# Altium integrated library Wurth_Elektronik_Passive_rev16a.IntLib: 1143 symbols (part 4 of 28)
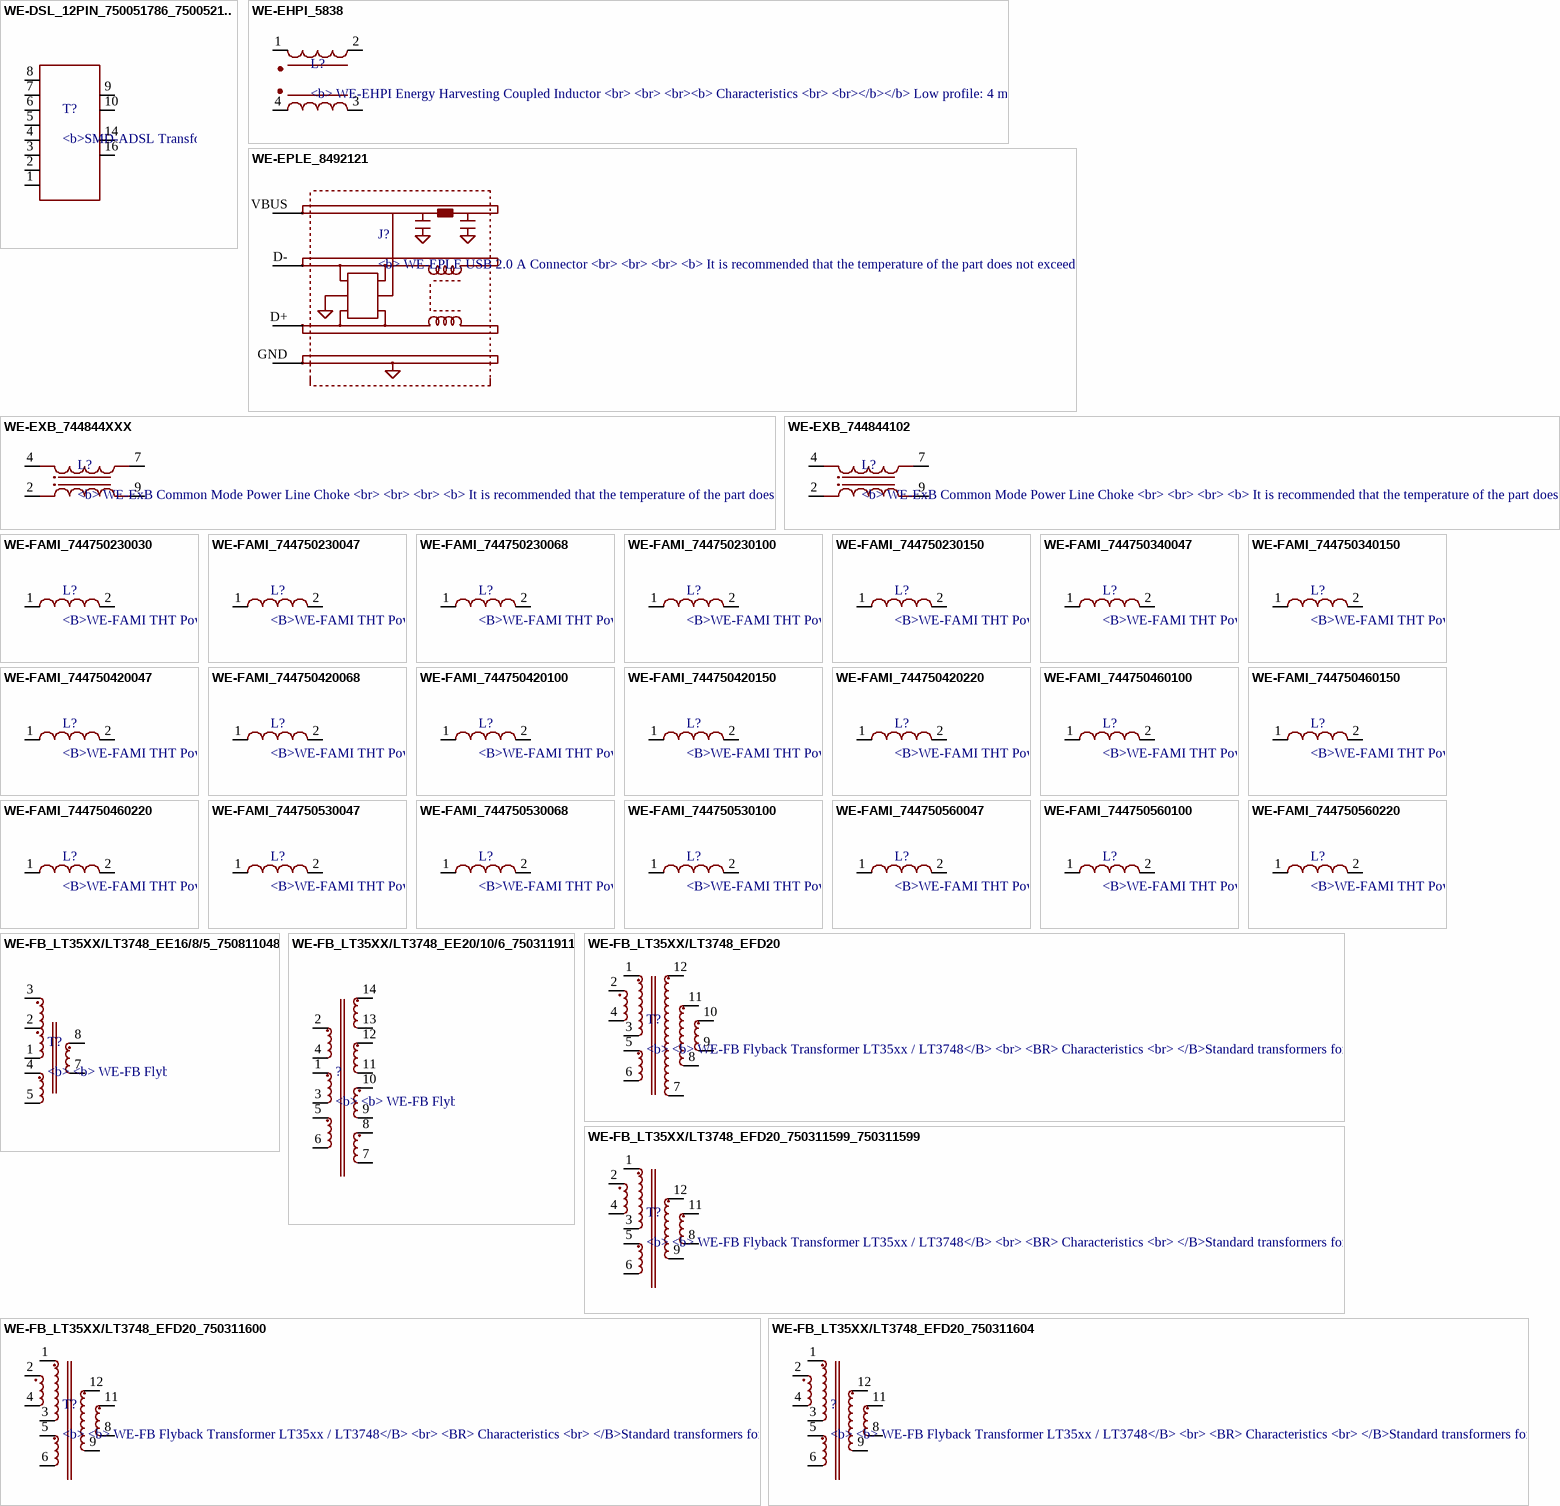
[diagram p61: symbols WE-DSL_12PIN_750051786_7500521.. to WE-FB_LT35XX/LT3748_EFD20_750311604]

## WE-FAMI_744750230047
designator L?, comment <B>WE-FAMI THT Power Inductor</B><BR> / <BR> / <B>Characteristics<br></b><br> / Optimization of material composition causes high performance <br> / Up to 19.7 A Saturation Current <br> / RDC values starting at 3.8 mΩ<br> / Shielded design <br> / Low stray field <br> / <br> / <b>Application</b><br> / <br> / DC/DC converters<br> / Power supplies and battery chargers<br> / Home Entertainment Systems <br> / Portable devices like notebooks<br> / <br> / <br><a href="http://katalog.we-online.de/media/images/eisos/IndFAMI_pf2.jpg" title="Enlarge picture"> / <img src="http://katalog.we-online.de/media/images/eisos/IndFAMI_pf2.jpg" width="320"></a><p> / Details see: <a href="http://katalog.we-online.de/en/pbs/WE-FAMI">http://katalog.we-online.de/en/pbs/WE-FAMI</a><p> / Updated on 2015-05-21<br> / 2015(C) Wurth Elektronik
footprint WE-FAMI_8010_744750230047
pins: 1, 2

## WE-FAMI_744750230068
designator L?, comment <B>WE-FAMI THT Power Inductor</B><BR> / <BR> / <B>Characteristics<br></b><br> / Optimization of material composition causes high performance <br> / Up to 19.7 A Saturation Current <br> / RDC values starting at 3.8 mΩ<br> / Shielded design <br> / Low stray field <br> / <br> / <b>Application</b><br> / <br> / DC/DC converters<br> / Power supplies and battery chargers<br> / Home Entertainment Systems <br> / Portable devices like notebooks<br> / <br> / <br><a href="http://katalog.we-online.de/media/images/eisos/IndFAMI_pf2.jpg" title="Enlarge picture"> / <img src="http://katalog.we-online.de/media/images/eisos/IndFAMI_pf2.jpg" width="320"></a><p> / Details see: <a href="http://katalog.we-online.de/en/pbs/WE-FAMI">http://katalog.we-online.de/en/pbs/WE-FAMI</a><p> / Updated on 2015-05-21<br> / 2015(C) Wurth Elektronik
footprint WE-FAMI_8010_744750230068
pins: 1, 2

## WE-FAMI_744750230100
designator L?, comment <B>WE-FAMI THT Power Inductor</B><BR> / <BR> / <B>Characteristics<br></b><br> / Optimization of material composition causes high performance <br> / Up to 19.7 A Saturation Current <br> / RDC values starting at 3.8 mΩ<br> / Shielded design <br> / Low stray field <br> / <br> / <b>Application</b><br> / <br> / DC/DC converters<br> / Power supplies and battery chargers<br> / Home Entertainment Systems <br> / Portable devices like notebooks<br> / <br> / <br><a href="http://katalog.we-online.de/media/images/eisos/IndFAMI_pf2.jpg" title="Enlarge picture"> / <img src="http://katalog.we-online.de/media/images/eisos/IndFAMI_pf2.jpg" width="320"></a><p> / Details see: <a href="http://katalog.we-online.de/en/pbs/WE-FAMI">http://katalog.we-online.de/en/pbs/WE-FAMI</a><p> / Updated on 2015-05-21<br> / 2015(C) Wurth Elektronik
footprint WE-FAMI_8010_744750230100
pins: 1, 2

## WE-FAMI_744750230150
designator L?, comment <B>WE-FAMI THT Power Inductor</B><BR> / <BR> / <B>Characteristics<br></b><br> / Optimization of material composition causes high performance <br> / Up to 19.7 A Saturation Current <br> / RDC values starting at 3.8 mΩ<br> / Shielded design <br> / Low stray field <br> / <br> / <b>Application</b><br> / <br> / DC/DC converters<br> / Power supplies and battery chargers<br> / Home Entertainment Systems <br> / Portable devices like notebooks<br> / <br> / <br><a href="http://katalog.we-online.de/media/images/eisos/IndFAMI_pf2.jpg" title="Enlarge picture"> / <img src="http://katalog.we-online.de/media/images/eisos/IndFAMI_pf2.jpg" width="320"></a><p> / Details see: <a href="http://katalog.we-online.de/en/pbs/WE-FAMI">http://katalog.we-online.de/en/pbs/WE-FAMI</a><p> / Updated on 2015-05-21<br> / 2015(C) Wurth Elektronik
footprint WE-FAMI_8010_744750230150
pins: 1, 2

## WE-FAMI_744750340047
designator L?, comment <B>WE-FAMI THT Power Inductor</B><BR> / <BR> / <B>Characteristics<br></b><br> / Optimization of material composition causes high performance <br> / Up to 19.7 A Saturation Current <br> / RDC values starting at 3.8 mΩ<br> / Shielded design <br> / Low stray field <br> / <br> / <b>Application</b><br> / <br> / DC/DC converters<br> / Power supplies and battery chargers<br> / Home Entertainment Systems <br> / Portable devices like notebooks<br> / <br> / <br><a href="http://katalog.we-online.de/media/images/eisos/IndFAMI_pf2.jpg" title="Enlarge picture"> / <img src="http://katalog.we-online.de/media/images/eisos/IndFAMI_pf2.jpg" width="320"></a><p> / Details see: <a href="http://katalog.we-online.de/en/pbs/WE-FAMI">http://katalog.we-online.de/en/pbs/WE-FAMI</a><p> / Updated on 2015-05-21<br> / 2015(C) Wurth Elektronik
footprint WE-FAMI_1012_744750340047
pins: 1, 2

## WE-FAMI_744750340150
designator L?, comment <B>WE-FAMI THT Power Inductor</B><BR> / <BR> / <B>Characteristics<br></b><br> / Optimization of material composition causes high performance <br> / Up to 19.7 A Saturation Current <br> / RDC values starting at 3.8 mΩ<br> / Shielded design <br> / Low stray field <br> / <br> / <b>Application</b><br> / <br> / DC/DC converters<br> / Power supplies and battery chargers<br> / Home Entertainment Systems <br> / Portable devices like notebooks<br> / <br> / <br><a href="http://katalog.we-online.de/media/images/eisos/IndFAMI_pf2.jpg" title="Enlarge picture"> / <img src="http://katalog.we-online.de/media/images/eisos/IndFAMI_pf2.jpg" width="320"></a><p> / Details see: <a href="http://katalog.we-online.de/en/pbs/WE-FAMI">http://katalog.we-online.de/en/pbs/WE-FAMI</a><p> / Updated on 2015-05-21<br> / 2015(C) Wurth Elektronik
footprint WE-FAMI_1012_744750340150
pins: 1, 2

## WE-FAMI_744750420047
designator L?, comment <B>WE-FAMI THT Power Inductor</B><BR> / <BR> / <B>Characteristics<br></b><br> / Optimization of material composition causes high performance <br> / Up to 19.7 A Saturation Current <br> / RDC values starting at 3.8 mΩ<br> / Shielded design <br> / Low stray field <br> / <br> / <b>Application</b><br> / <br> / DC/DC converters<br> / Power supplies and battery chargers<br> / Home Entertainment Systems <br> / Portable devices like notebooks<br> / <br> / <br><a href="http://katalog.we-online.de/media/images/eisos/IndFAMI_pf2.jpg" title="Enlarge picture"> / <img src="http://katalog.we-online.de/media/images/eisos/IndFAMI_pf2.jpg" width="320"></a><p> / Details see: <a href="http://katalog.we-online.de/en/pbs/WE-FAMI">http://katalog.we-online.de/en/pbs/WE-FAMI</a><p> / Updated on 2015-05-21<br> / 2015(C) Wurth Elektronik
footprint WE-FAMI_1280_744750420047
pins: 1, 2

## WE-FAMI_744750420068
designator L?, comment <B>WE-FAMI THT Power Inductor</B><BR> / <BR> / <B>Characteristics<br></b><br> / Optimization of material composition causes high performance <br> / Up to 19.7 A Saturation Current <br> / RDC values starting at 3.8 mΩ<br> / Shielded design <br> / Low stray field <br> / <br> / <b>Application</b><br> / <br> / DC/DC converters<br> / Power supplies and battery chargers<br> / Home Entertainment Systems <br> / Portable devices like notebooks<br> / <br> / <br><a href="http://katalog.we-online.de/media/images/eisos/IndFAMI_pf2.jpg" title="Enlarge picture"> / <img src="http://katalog.we-online.de/media/images/eisos/IndFAMI_pf2.jpg" width="320"></a><p> / Details see: <a href="http://katalog.we-online.de/en/pbs/WE-FAMI">http://katalog.we-online.de/en/pbs/WE-FAMI</a><p> / Updated on 2015-05-21<br> / 2015(C) Wurth Elektronik
footprint WE-FAMI_1280_744750420068
pins: 1, 2

## WE-FAMI_744750420100
designator L?, comment <B>WE-FAMI THT Power Inductor</B><BR> / <BR> / <B>Characteristics<br></b><br> / Optimization of material composition causes high performance <br> / Up to 19.7 A Saturation Current <br> / RDC values starting at 3.8 mΩ<br> / Shielded design <br> / Low stray field <br> / <br> / <b>Application</b><br> / <br> / DC/DC converters<br> / Power supplies and battery chargers<br> / Home Entertainment Systems <br> / Portable devices like notebooks<br> / <br> / <br><a href="http://katalog.we-online.de/media/images/eisos/IndFAMI_pf2.jpg" title="Enlarge picture"> / <img src="http://katalog.we-online.de/media/images/eisos/IndFAMI_pf2.jpg" width="320"></a><p> / Details see: <a href="http://katalog.we-online.de/en/pbs/WE-FAMI">http://katalog.we-online.de/en/pbs/WE-FAMI</a><p> / Updated on 2015-05-21<br> / 2015(C) Wurth Elektronik
footprint WE-FAMI_1280_744750420100
pins: 1, 2

## WE-FAMI_744750420150
designator L?, comment <B>WE-FAMI THT Power Inductor</B><BR> / <BR> / <B>Characteristics<br></b><br> / Optimization of material composition causes high performance <br> / Up to 19.7 A Saturation Current <br> / RDC values starting at 3.8 mΩ<br> / Shielded design <br> / Low stray field <br> / <br> / <b>Application</b><br> / <br> / DC/DC converters<br> / Power supplies and battery chargers<br> / Home Entertainment Systems <br> / Portable devices like notebooks<br> / <br> / <br><a href="http://katalog.we-online.de/media/images/eisos/IndFAMI_pf2.jpg" title="Enlarge picture"> / <img src="http://katalog.we-online.de/media/images/eisos/IndFAMI_pf2.jpg" width="320"></a><p> / Details see: <a href="http://katalog.we-online.de/en/pbs/WE-FAMI">http://katalog.we-online.de/en/pbs/WE-FAMI</a><p> / Updated on 2015-05-21<br> / 2015(C) Wurth Elektronik
footprint WE-FAMI_1280_744750420150
pins: 1, 2

## WE-FAMI_744750420220
designator L?, comment <B>WE-FAMI THT Power Inductor</B><BR> / <BR> / <B>Characteristics<br></b><br> / Optimization of material composition causes high performance <br> / Up to 19.7 A Saturation Current <br> / RDC values starting at 3.8 mΩ<br> / Shielded design <br> / Low stray field <br> / <br> / <b>Application</b><br> / <br> / DC/DC converters<br> / Power supplies and battery chargers<br> / Home Entertainment Systems <br> / Portable devices like notebooks<br> / <br> / <br><a href="http://katalog.we-online.de/media/images/eisos/IndFAMI_pf2.jpg" title="Enlarge picture"> / <img src="http://katalog.we-online.de/media/images/eisos/IndFAMI_pf2.jpg" width="320"></a><p> / Details see: <a href="http://katalog.we-online.de/en/pbs/WE-FAMI">http://katalog.we-online.de/en/pbs/WE-FAMI</a><p> / Updated on 2015-05-21<br> / 2015(C) Wurth Elektronik
footprint WE-FAMI_1280_744750420220
pins: 1, 2

## WE-FAMI_744750460100
designator L?, comment <B>WE-FAMI THT Power Inductor</B><BR> / <BR> / <B>Characteristics<br></b><br> / Optimization of material composition causes high performance <br> / Up to 19.7 A Saturation Current <br> / RDC values starting at 3.8 mΩ<br> / Shielded design <br> / Low stray field <br> / <br> / <b>Application</b><br> / <br> / DC/DC converters<br> / Power supplies and battery chargers<br> / Home Entertainment Systems <br> / Portable devices like notebooks<br> / <br> / <br><a href="http://katalog.we-online.de/media/images/eisos/IndFAMI_pf2.jpg" title="Enlarge picture"> / <img src="http://katalog.we-online.de/media/images/eisos/IndFAMI_pf2.jpg" width="320"></a><p> / Details see: <a href="http://katalog.we-online.de/en/pbs/WE-FAMI">http://katalog.we-online.de/en/pbs/WE-FAMI</a><p> / Updated on 2015-05-21<br> / 2015(C) Wurth Elektronik
footprint WE-FAMI_1215_744750460100
pins: 1, 2

## WE-FAMI_744750460150
designator L?, comment <B>WE-FAMI THT Power Inductor</B><BR> / <BR> / <B>Characteristics<br></b><br> / Optimization of material composition causes high performance <br> / Up to 19.7 A Saturation Current <br> / RDC values starting at 3.8 mΩ<br> / Shielded design <br> / Low stray field <br> / <br> / <b>Application</b><br> / <br> / DC/DC converters<br> / Power supplies and battery chargers<br> / Home Entertainment Systems <br> / Portable devices like notebooks<br> / <br> / <br><a href="http://katalog.we-online.de/media/images/eisos/IndFAMI_pf2.jpg" title="Enlarge picture"> / <img src="http://katalog.we-online.de/media/images/eisos/IndFAMI_pf2.jpg" width="320"></a><p> / Details see: <a href="http://katalog.we-online.de/en/pbs/WE-FAMI">http://katalog.we-online.de/en/pbs/WE-FAMI</a><p> / Updated on 2015-05-21<br> / 2015(C) Wurth Elektronik
footprint WE-FAMI_1215_744750460150
pins: 1, 2

## WE-FAMI_744750460220
designator L?, comment <B>WE-FAMI THT Power Inductor</B><BR> / <BR> / <B>Characteristics<br></b><br> / Optimization of material composition causes high performance <br> / Up to 19.7 A Saturation Current <br> / RDC values starting at 3.8 mΩ<br> / Shielded design <br> / Low stray field <br> / <br> / <b>Application</b><br> / <br> / DC/DC converters<br> / Power supplies and battery chargers<br> / Home Entertainment Systems <br> / Portable devices like notebooks<br> / <br> / <br><a href="http://katalog.we-online.de/media/images/eisos/IndFAMI_pf2.jpg" title="Enlarge picture"> / <img src="http://katalog.we-online.de/media/images/eisos/IndFAMI_pf2.jpg" width="320"></a><p> / Details see: <a href="http://katalog.we-online.de/en/pbs/WE-FAMI">http://katalog.we-online.de/en/pbs/WE-FAMI</a><p> / Updated on 2015-05-21<br> / 2015(C) Wurth Elektronik
footprint WE-FAMI_1215_744750460220
pins: 1, 2

## WE-FAMI_744750530047
designator L?, comment <B>WE-FAMI THT Power Inductor</B><BR> / <BR> / <B>Characteristics<br></b><br> / Optimization of material composition causes high performance <br> / Up to 19.7 A Saturation Current <br> / RDC values starting at 3.8 mΩ<br> / Shielded design <br> / Low stray field <br> / <br> / <b>Application</b><br> / <br> / DC/DC converters<br> / Power supplies and battery chargers<br> / Home Entertainment Systems <br> / Portable devices like notebooks<br> / <br> / <br><a href="http://katalog.we-online.de/media/images/eisos/IndFAMI_pf2.jpg" title="Enlarge picture"> / <img src="http://katalog.we-online.de/media/images/eisos/IndFAMI_pf2.jpg" width="320"></a><p> / Details see: <a href="http://katalog.we-online.de/en/pbs/WE-FAMI">http://katalog.we-online.de/en/pbs/WE-FAMI</a><p> / Updated on 2015-05-21<br> / 2015(C) Wurth Elektronik
footprint WE-FAMI_1410_744750530047
pins: 1, 2

## WE-FAMI_744750530068
designator L?, comment <B>WE-FAMI THT Power Inductor</B><BR> / <BR> / <B>Characteristics<br></b><br> / Optimization of material composition causes high performance <br> / Up to 19.7 A Saturation Current <br> / RDC values starting at 3.8 mΩ<br> / Shielded design <br> / Low stray field <br> / <br> / <b>Application</b><br> / <br> / DC/DC converters<br> / Power supplies and battery chargers<br> / Home Entertainment Systems <br> / Portable devices like notebooks<br> / <br> / <br><a href="http://katalog.we-online.de/media/images/eisos/IndFAMI_pf2.jpg" title="Enlarge picture"> / <img src="http://katalog.we-online.de/media/images/eisos/IndFAMI_pf2.jpg" width="320"></a><p> / Details see: <a href="http://katalog.we-online.de/en/pbs/WE-FAMI">http://katalog.we-online.de/en/pbs/WE-FAMI</a><p> / Updated on 2015-05-21<br> / 2015(C) Wurth Elektronik
footprint WE-FAMI_1410_744750530068
pins: 1, 2

## WE-FAMI_744750530100
designator L?, comment <B>WE-FAMI THT Power Inductor</B><BR> / <BR> / <B>Characteristics<br></b><br> / Optimization of material composition causes high performance <br> / Up to 19.7 A Saturation Current <br> / RDC values starting at 3.8 mΩ<br> / Shielded design <br> / Low stray field <br> / <br> / <b>Application</b><br> / <br> / DC/DC converters<br> / Power supplies and battery chargers<br> / Home Entertainment Systems <br> / Portable devices like notebooks<br> / <br> / <br><a href="http://katalog.we-online.de/media/images/eisos/IndFAMI_pf2.jpg" title="Enlarge picture"> / <img src="http://katalog.we-online.de/media/images/eisos/IndFAMI_pf2.jpg" width="320"></a><p> / Details see: <a href="http://katalog.we-online.de/en/pbs/WE-FAMI">http://katalog.we-online.de/en/pbs/WE-FAMI</a><p> / Updated on 2015-05-21<br> / 2015(C) Wurth Elektronik
footprint WE-FAMI_1410_744750530100
pins: 1, 2

## WE-FAMI_744750560047
designator L?, comment <B>WE-FAMI THT Power Inductor</B><BR> / <BR> / <B>Characteristics<br></b><br> / Optimization of material composition causes high performance <br> / Up to 19.7 A Saturation Current <br> / RDC values starting at 3.8 mΩ<br> / Shielded design <br> / Low stray field <br> / <br> / <b>Application</b><br> / <br> / DC/DC converters<br> / Power supplies and battery chargers<br> / Home Entertainment Systems <br> / Portable devices like notebooks<br> / <br> / <br><a href="http://katalog.we-online.de/media/images/eisos/IndFAMI_pf2.jpg" title="Enlarge picture"> / <img src="http://katalog.we-online.de/media/images/eisos/IndFAMI_pf2.jpg" width="320"></a><p> / Details see: <a href="http://katalog.we-online.de/en/pbs/WE-FAMI">http://katalog.we-online.de/en/pbs/WE-FAMI</a><p> / Updated on 2015-05-21<br> / 2015(C) Wurth Elektronik
footprint WE-FAMI_1415_744750560047
pins: 1, 2

## WE-FAMI_744750560100
designator L?, comment <B>WE-FAMI THT Power Inductor</B><BR> / <BR> / <B>Characteristics<br></b><br> / Optimization of material composition causes high performance <br> / Up to 19.7 A Saturation Current <br> / RDC values starting at 3.8 mΩ<br> / Shielded design <br> / Low stray field <br> / <br> / <b>Application</b><br> / <br> / DC/DC converters<br> / Power supplies and battery chargers<br> / Home Entertainment Systems <br> / Portable devices like notebooks<br> / <br> / <br><a href="http://katalog.we-online.de/media/images/eisos/IndFAMI_pf2.jpg" title="Enlarge picture"> / <img src="http://katalog.we-online.de/media/images/eisos/IndFAMI_pf2.jpg" width="320"></a><p> / Details see: <a href="http://katalog.we-online.de/en/pbs/WE-FAMI">http://katalog.we-online.de/en/pbs/WE-FAMI</a><p> / Updated on 2015-05-21<br> / 2015(C) Wurth Elektronik
footprint WE-FAMI_1415_744750560100
pins: 1, 2

## WE-FAMI_744750560220
designator L?, comment <B>WE-FAMI THT Power Inductor</B><BR> / <BR> / <B>Characteristics<br></b><br> / Optimization of material composition causes high performance <br> / Up to 19.7 A Saturation Current <br> / RDC values starting at 3.8 mΩ<br> / Shielded design <br> / Low stray field <br> / <br> / <b>Application</b><br> / <br> / DC/DC converters<br> / Power supplies and battery chargers<br> / Home Entertainment Systems <br> / Portable devices like notebooks<br> / <br> / <br><a href="http://katalog.we-online.de/media/images/eisos/IndFAMI_pf2.jpg" title="Enlarge picture"> / <img src="http://katalog.we-online.de/media/images/eisos/IndFAMI_pf2.jpg" width="320"></a><p> / Details see: <a href="http://katalog.we-online.de/en/pbs/WE-FAMI">http://katalog.we-online.de/en/pbs/WE-FAMI</a><p> / Updated on 2015-05-21<br> / 2015(C) Wurth Elektronik
footprint WE-FAMI_1415_744750560220
pins: 1, 2

## WE-FB_LT35XX/LT3748_EE16/8/5_750811048
designator T?, comment <b> <b> WE-FB Flyback Transformer LT35xx / LT3748</B> / <br> / <BR> / Characteristics / <br> </B>Standard transformers for various output voltages currents available<BR></B> / Easy design of custom power supply due to standard circuit and change of transformers and two components for feedback loop<BR> / Isolation voltage up to 2.5 kV / <br> / <br> / <br><b> Applications <BR> / </B> Isolated power design<BR> / Sensor interfaces<BR> / Isolated telecom converters<BR> / Power over Ethernet<BR> / <br> / <br> / <br> / <br><a href="http://katalog.we-online.de/media/images/eisos/UtFB_LT_MID_pf2.jpg" title="Enlarge picture"> / <img src="http://katalog.we-online.de/media/thumbs2/eisos/thb_UtFB_LT_MID_pf2.jpg" width="320"></a><p> / Details see: <a href="http://katalog.we-online.de/en/pbs/WE-FB_Linear?">http://katalog.we-online.de/en/pbs/WE-FB_Linear?</a><p> / Updated 2015-04-03<br> / 2015 (C) Wurth Elektronik / <br>
footprint WE-FB_EE16/8/5
pins: 1 6, 2 7, 3 1, 4 5, 5 4, 7 3, 8 2

## WE-FB_LT35XX/LT3748_EE20/10/6_750311911
designator ?, comment <b> <b> WE-FB Flyback Transformer LT35xx / LT3748</B> / <br> / <BR> / Characteristics / <br> </B>Standard transformers for various output voltages currents available<BR></B> / Easy design of custom power supply due to standard circuit and change of transformers and two components for feedback loop<BR> / Isolation voltage up to 2.5 kV / <br> / <br> / <br><b> Applications <BR> / </B> Isolated power design<BR> / Sensor interfaces<BR> / Isolated telecom converters<BR> / Power over Ethernet<BR> / <br> / <br> / <br> / <br><a href="http://katalog.we-online.de/media/images/eisos/UtFB_LT_MID_pf2.jpg" title="Enlarge picture"> / <img src="http://katalog.we-online.de/media/thumbs2/eisos/thb_UtFB_LT_MID_pf2.jpg" width="320"></a><p> / Details see: <a href="http://katalog.we-online.de/en/pbs/WE-FB_Linear?">http://katalog.we-online.de/en/pbs/WE-FB_Linear?</a><p> / Updated 2015-04-03<br> / 2015 (C) Wurth Elektronik / <br>
footprint WE-FB_EE20/10/6
pins: 1 13, 2 1, 3 12, 4 14, 5 11, 6 10, 7 9, 8, 9 7, 10 6, 11 5, 12 4, 13 3, 14 2

## WE-FB_LT35XX/LT3748_EFD20
designator T?, comment <b> <b> WE-FB Flyback Transformer LT35xx / LT3748</B> / <br> / <BR> / Characteristics / <br> </B>Standard transformers for various output voltages currents available<BR></B> / Easy design of custom power supply due to standard circuit and change of transformers and two components for feedback loop<BR> / Isolation voltage up to 2.5 kV / <br> / <br> / <br><b> Applications <BR> / </B> Isolated power design<BR> / Sensor interfaces<BR> / Isolated telecom converters<BR> / Power over Ethernet<BR> / <br> / <br> / <br> / <br><a href="http://katalog.we-online.de/media/images/eisos/UtFB_LT_MID_pf2.jpg" title="Enlarge picture"> / <img src="http://katalog.we-online.de/media/thumbs2/eisos/thb_UtFB_LT_MID_pf2.jpg" width="320"></a><p> / Details see: <a href="http://katalog.we-online.de/en/pbs/WE-FB_Linear?">http://katalog.we-online.de/en/pbs/WE-FB_Linear?</a><p> / Updated 2015-04-03<br> / 2015 (C) Wurth Elektronik / <br>
footprint WE-FB_EFD20
pins: 1 2, 2 1, 3 11, 4 12, 5 10, 6 9, 7 8, 8 7, 9 6, 10 5, 11 4, 12 3

## WE-FB_LT35XX/LT3748_EFD20_750311599_750311599
designator T?, comment <b> <b> WE-FB Flyback Transformer LT35xx / LT3748</B> / <br> / <BR> / Characteristics / <br> </B>Standard transformers for various output voltages currents available<BR></B> / Easy design of custom power supply due to standard circuit and change of transformers and two components for feedback loop<BR> / Isolation voltage up to 2.5 kV / <br> / <br> / <br><b> Applications <BR> / </B> Isolated power design<BR> / Sensor interfaces<BR> / Isolated telecom converters<BR> / Power over Ethernet<BR> / <br> / <br> / <br> / <br><a href="http://katalog.we-online.de/media/images/eisos/UtFB_LT_MID_pf2.jpg" title="Enlarge picture"> / <img src="http://katalog.we-online.de/media/thumbs2/eisos/thb_UtFB_LT_MID_pf2.jpg" width="320"></a><p> / Details see: <a href="http://katalog.we-online.de/en/pbs/WE-FB_Linear?">http://katalog.we-online.de/en/pbs/WE-FB_Linear?</a><p> / Updated 2015-04-03<br> / 2015 (C) Wurth Elektronik / <br>
footprint WE-FB_EFD20
pins: 1 2, 2 1, 3 9, 4 10, 5 8, 6 7, 8 5, 9 6, 11 4, 12 3

## WE-FB_LT35XX/LT3748_EFD20_750311600
designator T?, comment <b> <b> WE-FB Flyback Transformer LT35xx / LT3748</B> / <br> / <BR> / Characteristics / <br> </B>Standard transformers for various output voltages currents available<BR></B> / Easy design of custom power supply due to standard circuit and change of transformers and two components for feedback loop<BR> / Isolation voltage up to 2.5 kV / <br> / <br> / <br><b> Applications <BR> / </B> Isolated power design<BR> / Sensor interfaces<BR> / Isolated telecom converters<BR> / Power over Ethernet<BR> / <br> / <br> / <br> / <br><a href="http://katalog.we-online.de/media/images/eisos/UtFB_LT_MID_pf2.jpg" title="Enlarge picture"> / <img src="http://katalog.we-online.de/media/thumbs2/eisos/thb_UtFB_LT_MID_pf2.jpg" width="320"></a><p> / Details see: <a href="http://katalog.we-online.de/en/pbs/WE-FB_Linear?">http://katalog.we-online.de/en/pbs/WE-FB_Linear?</a><p> / Updated 2015-04-03<br> / 2015 (C) Wurth Elektronik / <br>
footprint WE-FB_EFD20
pins: 1 2, 2 1, 3 9, 4 10, 5 8, 6 7, 8 5, 9 6, 11 4, 12 3

## WE-FB_LT35XX/LT3748_EFD20_750311604
designator ?, comment <b> <b> WE-FB Flyback Transformer LT35xx / LT3748</B> / <br> / <BR> / Characteristics / <br> </B>Standard transformers for various output voltages currents available<BR></B> / Easy design of custom power supply due to standard circuit and change of transformers and two components for feedback loop<BR> / Isolation voltage up to 2.5 kV / <br> / <br> / <br><b> Applications <BR> / </B> Isolated power design<BR> / Sensor interfaces<BR> / Isolated telecom converters<BR> / Power over Ethernet<BR> / <br> / <br> / <br> / <br><a href="http://katalog.we-online.de/media/images/eisos/UtFB_LT_MID_pf2.jpg" title="Enlarge picture"> / <img src="http://katalog.we-online.de/media/thumbs2/eisos/thb_UtFB_LT_MID_pf2.jpg" width="320"></a><p> / Details see: <a href="http://katalog.we-online.de/en/pbs/WE-FB_Linear?">http://katalog.we-online.de/en/pbs/WE-FB_Linear?</a><p> / Updated 2015-04-03<br> / 2015 (C) Wurth Elektronik / <br>
footprint WE-FB_EFD20
pins: 1 2, 2 1, 3 9, 4 10, 5 8, 6 7, 8 5, 9 6, 11 4, 12 3

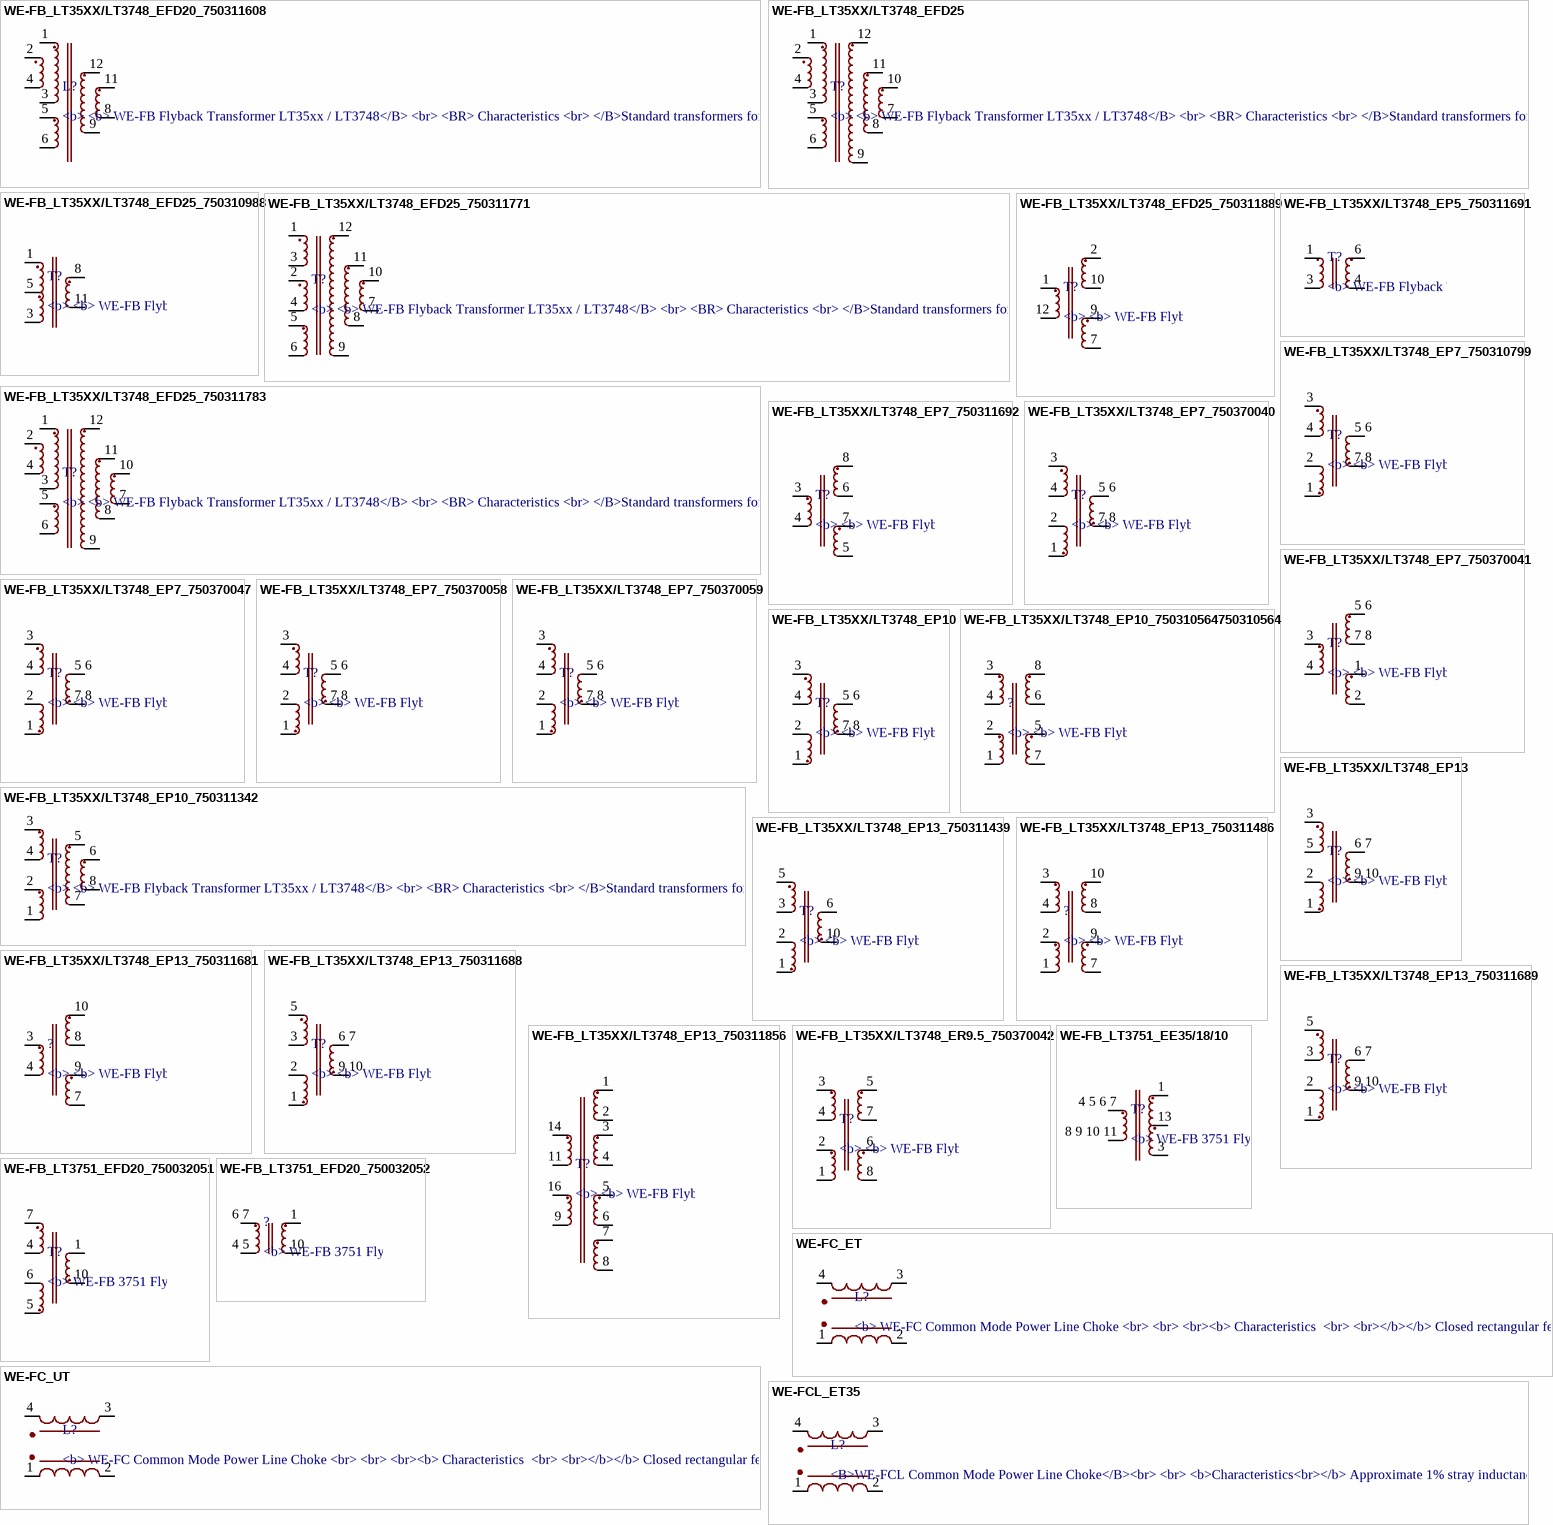
[diagram p6: symbols WE-FB_LT35XX/LT3748_EFD20_750311608 to WE-FCL_ET35]

## WE-FB_LT35XX/LT3748_EFD20_750311608
designator L?, comment <b> <b> WE-FB Flyback Transformer LT35xx / LT3748</B> / <br> / <BR> / Characteristics / <br> </B>Standard transformers for various output voltages currents available<BR></B> / Easy design of custom power supply due to standard circuit and change of transformers and two components for feedback loop<BR> / Isolation voltage up to 2.5 kV / <br> / <br> / <br><b> Applications <BR> / </B> Isolated power design<BR> / Sensor interfaces<BR> / Isolated telecom converters<BR> / Power over Ethernet<BR> / <br> / <br> / <br> / <br><a href="http://katalog.we-online.de/media/images/eisos/UtFB_LT_MID_pf2.jpg" title="Enlarge picture"> / <img src="http://katalog.we-online.de/media/thumbs2/eisos/thb_UtFB_LT_MID_pf2.jpg" width="320"></a><p> / Details see: <a href="http://katalog.we-online.de/en/pbs/WE-FB_Linear?">http://katalog.we-online.de/en/pbs/WE-FB_Linear?</a><p> / Updated 2015-04-03<br> / 2015 (C) Wurth Elektronik / <br>
footprint WE-FB_EFD20
pins: 1 2, 2 1, 3 9, 4 10, 5 8, 6 7, 8 5, 9 6, 11 4, 12 3

## WE-FB_LT35XX/LT3748_EFD25
designator T?, comment <b> <b> WE-FB Flyback Transformer LT35xx / LT3748</B> / <br> / <BR> / Characteristics / <br> </B>Standard transformers for various output voltages currents available<BR></B> / Easy design of custom power supply due to standard circuit and change of transformers and two components for feedback loop<BR> / Isolation voltage up to 2.5 kV / <br> / <br> / <br><b> Applications <BR> / </B> Isolated power design<BR> / Sensor interfaces<BR> / Isolated telecom converters<BR> / Power over Ethernet<BR> / <br> / <br> / <br> / <br><a href="http://katalog.we-online.de/media/images/eisos/UtFB_LT_MID_pf2.jpg" title="Enlarge picture"> / <img src="http://katalog.we-online.de/media/thumbs2/eisos/thb_UtFB_LT_MID_pf2.jpg" width="320"></a><p> / Details see: <a href="http://katalog.we-online.de/en/pbs/WE-FB_Linear?">http://katalog.we-online.de/en/pbs/WE-FB_Linear?</a><p> / Updated 2015-04-03<br> / 2015 (C) Wurth Elektronik / <br>
footprint WE-FB_EFD25_DIMENSION1
pins: 1 2, 2 1, 3 11, 4 12, 5 10, 6 9, 7 6, 8 7, 9 8, 10 5, 11 4, 12 3

## WE-FB_LT35XX/LT3748_EFD25_750310988
designator T?, comment <b> <b> WE-FB Flyback Transformer LT35xx / LT3748</B> / <br> / <BR> / Characteristics / <br> </B>Standard transformers for various output voltages currents available<BR></B> / Easy design of custom power supply due to standard circuit and change of transformers and two components for feedback loop<BR> / Isolation voltage up to 2.5 kV / <br> / <br> / <br><b> Applications <BR> / </B> Isolated power design<BR> / Sensor interfaces<BR> / Isolated telecom converters<BR> / Power over Ethernet<BR> / <br> / <br> / <br> / <br><a href="http://katalog.we-online.de/media/images/eisos/UtFB_LT_MID_pf2.jpg" title="Enlarge picture"> / <img src="http://katalog.we-online.de/media/thumbs2/eisos/thb_UtFB_LT_MID_pf2.jpg" width="320"></a><p> / Details see: <a href="http://katalog.we-online.de/en/pbs/WE-FB_Linear?">http://katalog.we-online.de/en/pbs/WE-FB_Linear?</a><p> / Updated 2015-04-03<br> / 2015 (C) Wurth Elektronik / <br>
footprint WE-FB_EFD25_DIMENSION1
pins: 1, 3 4, 5, 8 2, 11 3

## WE-FB_LT35XX/LT3748_EFD25_750311771
designator T?, comment <b> <b> WE-FB Flyback Transformer LT35xx / LT3748</B> / <br> / <BR> / Characteristics / <br> </B>Standard transformers for various output voltages currents available<BR></B> / Easy design of custom power supply due to standard circuit and change of transformers and two components for feedback loop<BR> / Isolation voltage up to 2.5 kV / <br> / <br> / <br><b> Applications <BR> / </B> Isolated power design<BR> / Sensor interfaces<BR> / Isolated telecom converters<BR> / Power over Ethernet<BR> / <br> / <br> / <br> / <br><a href="http://katalog.we-online.de/media/images/eisos/UtFB_LT_MID_pf2.jpg" title="Enlarge picture"> / <img src="http://katalog.we-online.de/media/thumbs2/eisos/thb_UtFB_LT_MID_pf2.jpg" width="320"></a><p> / Details see: <a href="http://katalog.we-online.de/en/pbs/WE-FB_Linear?">http://katalog.we-online.de/en/pbs/WE-FB_Linear?</a><p> / Updated 2015-04-03<br> / 2015 (C) Wurth Elektronik / <br>
footprint WE-FB_EFD25_DIMENSION1
pins: 1, 2 11, 3 12, 4 10, 5 9, 6 8, 7 5, 8 6, 9 7, 10 4, 11 3, 12 2

## WE-FB_LT35XX/LT3748_EFD25_750311783
designator T?, comment <b> <b> WE-FB Flyback Transformer LT35xx / LT3748</B> / <br> / <BR> / Characteristics / <br> </B>Standard transformers for various output voltages currents available<BR></B> / Easy design of custom power supply due to standard circuit and change of transformers and two components for feedback loop<BR> / Isolation voltage up to 2.5 kV / <br> / <br> / <br><b> Applications <BR> / </B> Isolated power design<BR> / Sensor interfaces<BR> / Isolated telecom converters<BR> / Power over Ethernet<BR> / <br> / <br> / <br> / <br><a href="http://katalog.we-online.de/media/images/eisos/UtFB_LT_MID_pf2.jpg" title="Enlarge picture"> / <img src="http://katalog.we-online.de/media/thumbs2/eisos/thb_UtFB_LT_MID_pf2.jpg" width="320"></a><p> / Details see: <a href="http://katalog.we-online.de/en/pbs/WE-FB_Linear?">http://katalog.we-online.de/en/pbs/WE-FB_Linear?</a><p> / Updated 2015-04-03<br> / 2015 (C) Wurth Elektronik / <br>
footprint WE-FB_EFD25_DIMENSION1
pins: 1 2, 2 1, 3 11, 4 12, 5 10, 6 9, 7 6, 8 7, 9 8, 10 5, 11 4, 12 3

## WE-FB_LT35XX/LT3748_EFD25_750311889
designator T?, comment <b> <b> WE-FB Flyback Transformer LT35xx / LT3748</B> / <br> / <BR> / Characteristics / <br> </B>Standard transformers for various output voltages currents available<BR></B> / Easy design of custom power supply due to standard circuit and change of transformers and two components for feedback loop<BR> / Isolation voltage up to 2.5 kV / <br> / <br> / <br><b> Applications <BR> / </B> Isolated power design<BR> / Sensor interfaces<BR> / Isolated telecom converters<BR> / Power over Ethernet<BR> / <br> / <br> / <br> / <br><a href="http://katalog.we-online.de/media/images/eisos/UtFB_LT_MID_pf2.jpg" title="Enlarge picture"> / <img src="http://katalog.we-online.de/media/thumbs2/eisos/thb_UtFB_LT_MID_pf2.jpg" width="320"></a><p> / Details see: <a href="http://katalog.we-online.de/en/pbs/WE-FB_Linear?">http://katalog.we-online.de/en/pbs/WE-FB_Linear?</a><p> / Updated 2015-04-03<br> / 2015 (C) Wurth Elektronik / <br>
footprint WE-FB_EFD25_DIMENSION1
pins: 1, 2, 7 5, 9 4, 10 3, 12 6

## WE-FB_LT35XX/LT3748_EP5_750311691
designator T?, comment <b> WE-FB Flyback Transformer suitable for LT3573/ LT3574/ LT3575/ LT3748 / <br> / <br> / <br><b> Characteristics / <br> / <br></b></b> easy design in solution / <br> / <br> less external components needed / <br> / <br> small board space / <br> / <br> low cost / <br> / <br> no optocoupler needed! / <br> / <br> long term reliability voltage control / <br> / <br> no aging / <br> / <br> same external parts for different output voltages / <br> / <br> easy design of custom power supply due to standard circuit and change of transformers and two components for feedback loop / <br> / <br> Isolation voltage up to 2.5 kV / <br> / <br> / <br><b> Applications / <br> / <br></b> Isolated power design / <br> / <br> Sensor interfaces / <br> / <br> Isolated telecom converters / <br> / <br> Power over Ethernet / <br> / <br> / <br> / <br><a href="http://katalog.we-online.de/media/images/eisos/UtFB_LT_MID_pf2.jpg" title="Enlarge picture"> / <img src="http://katalog.we-online.de/media/images/eisos/UtFB_LT_MID_pf2.jpg" width="320"></a><p> / Details see: <a href="http://katalog.we-online.de/en/pbs/WE-FB_Linear?">http://katalog.we-online.de/en/pbs/WE-FB_Linear?</a><p> / Updated 2014-07-07<br> / 2014 (C) Wurth Elektronik
footprint WE_EP5_SMD_6PIN
pins: 1, 3 4, 4 3, 6 2

## WE-FB_LT35XX/LT3748_EP7_750310799
designator T?, comment <b> <b> WE-FB Flyback Transformer LT35xx / LT3748</B> / <br> / <BR> / Characteristics / <br> </B>Standard transformers for various output voltages currents available<BR></B> / Easy design of custom power supply due to standard circuit and change of transformers and two components for feedback loop<BR> / Isolation voltage up to 2.5 kV / <br> / <br> / <br><b> Applications <BR> / </B> Isolated power design<BR> / Sensor interfaces<BR> / Isolated telecom converters<BR> / Power over Ethernet<BR> / <br> / <br> / <br> / <br><a href="http://katalog.we-online.de/media/images/eisos/UtFB_LT_MID_pf2.jpg" title="Enlarge picture"> / <img src="http://katalog.we-online.de/media/thumbs2/eisos/thb_UtFB_LT_MID_pf2.jpg" width="320"></a><p> / Details see: <a href="http://katalog.we-online.de/en/pbs/WE-FB_Linear?">http://katalog.we-online.de/en/pbs/WE-FB_Linear?</a><p> / Updated 2015-04-03<br> / 2015 (C) Wurth Elektronik / <br>
footprint WE_FB_EP7_DIMENSION1
pins: 1 4, 2 5, 3 1, 4 6, 5 6 2, 7 8 3

## WE-FB_LT35XX/LT3748_EP7_750311692
designator T?, comment <b> <b> WE-FB Flyback Transformer LT35xx / LT3748</B> / <br> / <BR> / Characteristics / <br> </B>Standard transformers for various output voltages currents available<BR></B> / Easy design of custom power supply due to standard circuit and change of transformers and two components for feedback loop<BR> / Isolation voltage up to 2.5 kV / <br> / <br> / <br><b> Applications <BR> / </B> Isolated power design<BR> / Sensor interfaces<BR> / Isolated telecom converters<BR> / Power over Ethernet<BR> / <br> / <br> / <br> / <br><a href="http://katalog.we-online.de/media/images/eisos/UtFB_LT_MID_pf2.jpg" title="Enlarge picture"> / <img src="http://katalog.we-online.de/media/thumbs2/eisos/thb_UtFB_LT_MID_pf2.jpg" width="320"></a><p> / Details see: <a href="http://katalog.we-online.de/en/pbs/WE-FB_Linear?">http://katalog.we-online.de/en/pbs/WE-FB_Linear?</a><p> / Updated 2015-04-03<br> / 2015 (C) Wurth Elektronik / <br>
footprint WE_FB_EP7_DIMENSION1
pins: 3 1, 4 6, 5, 6 3, 7 4, 8 2

## WE-FB_LT35XX/LT3748_EP7_750370040
designator T?, comment <b> <b> WE-FB Flyback Transformer LT35xx / LT3748</B> / <br> / <BR> / Characteristics / <br> </B>Standard transformers for various output voltages currents available<BR></B> / Easy design of custom power supply due to standard circuit and change of transformers and two components for feedback loop<BR> / Isolation voltage up to 2.5 kV / <br> / <br> / <br><b> Applications <BR> / </B> Isolated power design<BR> / Sensor interfaces<BR> / Isolated telecom converters<BR> / Power over Ethernet<BR> / <br> / <br> / <br> / <br><a href="http://katalog.we-online.de/media/images/eisos/UtFB_LT_MID_pf2.jpg" title="Enlarge picture"> / <img src="http://katalog.we-online.de/media/thumbs2/eisos/thb_UtFB_LT_MID_pf2.jpg" width="320"></a><p> / Details see: <a href="http://katalog.we-online.de/en/pbs/WE-FB_Linear?">http://katalog.we-online.de/en/pbs/WE-FB_Linear?</a><p> / Updated 2015-04-03<br> / 2015 (C) Wurth Elektronik / <br>
footprint WE_FB_EP7_DIMENSION1
pins: 1 4, 2 5, 3 1, 4 6, 5 6 2, 7 8 3

## WE-FB_LT35XX/LT3748_EP7_750370041
designator T?, comment <b> <b> WE-FB Flyback Transformer LT35xx / LT3748</B> / <br> / <BR> / Characteristics / <br> </B>Standard transformers for various output voltages currents available<BR></B> / Easy design of custom power supply due to standard circuit and change of transformers and two components for feedback loop<BR> / Isolation voltage up to 2.5 kV / <br> / <br> / <br><b> Applications <BR> / </B> Isolated power design<BR> / Sensor interfaces<BR> / Isolated telecom converters<BR> / Power over Ethernet<BR> / <br> / <br> / <br> / <br><a href="http://katalog.we-online.de/media/images/eisos/UtFB_LT_MID_pf2.jpg" title="Enlarge picture"> / <img src="http://katalog.we-online.de/media/thumbs2/eisos/thb_UtFB_LT_MID_pf2.jpg" width="320"></a><p> / Details see: <a href="http://katalog.we-online.de/en/pbs/WE-FB_Linear?">http://katalog.we-online.de/en/pbs/WE-FB_Linear?</a><p> / Updated 2015-04-03<br> / 2015 (C) Wurth Elektronik / <br>
footprint WE_FB_EP7_DIMENSION1
pins: 1 4, 2 5, 3 1, 4 6, 5 6 2, 7 8 3

## WE-FB_LT35XX/LT3748_EP7_750370047
designator T?, comment <b> <b> WE-FB Flyback Transformer LT35xx / LT3748</B> / <br> / <BR> / Characteristics / <br> </B>Standard transformers for various output voltages currents available<BR></B> / Easy design of custom power supply due to standard circuit and change of transformers and two components for feedback loop<BR> / Isolation voltage up to 2.5 kV / <br> / <br> / <br><b> Applications <BR> / </B> Isolated power design<BR> / Sensor interfaces<BR> / Isolated telecom converters<BR> / Power over Ethernet<BR> / <br> / <br> / <br> / <br><a href="http://katalog.we-online.de/media/images/eisos/UtFB_LT_MID_pf2.jpg" title="Enlarge picture"> / <img src="http://katalog.we-online.de/media/thumbs2/eisos/thb_UtFB_LT_MID_pf2.jpg" width="320"></a><p> / Details see: <a href="http://katalog.we-online.de/en/pbs/WE-FB_Linear?">http://katalog.we-online.de/en/pbs/WE-FB_Linear?</a><p> / Updated 2015-04-03<br> / 2015 (C) Wurth Elektronik / <br>
footprint WE_FB_EP7_DIMENSION2
pins: 1 4, 2 5, 3 1, 4 6, 5 6 2, 7 8 3

## WE-FB_LT35XX/LT3748_EP7_750370058
designator T?, comment <b> <b> WE-FB Flyback Transformer LT35xx / LT3748</B> / <br> / <BR> / Characteristics / <br> </B>Standard transformers for various output voltages currents available<BR></B> / Easy design of custom power supply due to standard circuit and change of transformers and two components for feedback loop<BR> / Isolation voltage up to 2.5 kV / <br> / <br> / <br><b> Applications <BR> / </B> Isolated power design<BR> / Sensor interfaces<BR> / Isolated telecom converters<BR> / Power over Ethernet<BR> / <br> / <br> / <br> / <br><a href="http://katalog.we-online.de/media/images/eisos/UtFB_LT_MID_pf2.jpg" title="Enlarge picture"> / <img src="http://katalog.we-online.de/media/thumbs2/eisos/thb_UtFB_LT_MID_pf2.jpg" width="320"></a><p> / Details see: <a href="http://katalog.we-online.de/en/pbs/WE-FB_Linear?">http://katalog.we-online.de/en/pbs/WE-FB_Linear?</a><p> / Updated 2015-04-03<br> / 2015 (C) Wurth Elektronik / <br>
footprint WE_FB_EP7_DIMENSION2
pins: 1 4, 2 5, 3 1, 4 6, 5 6 2, 7 8 3

## WE-FB_LT35XX/LT3748_EP7_750370059
designator T?, comment <b> <b> WE-FB Flyback Transformer LT35xx / LT3748</B> / <br> / <BR> / Characteristics / <br> </B>Standard transformers for various output voltages currents available<BR></B> / Easy design of custom power supply due to standard circuit and change of transformers and two components for feedback loop<BR> / Isolation voltage up to 2.5 kV / <br> / <br> / <br><b> Applications <BR> / </B> Isolated power design<BR> / Sensor interfaces<BR> / Isolated telecom converters<BR> / Power over Ethernet<BR> / <br> / <br> / <br> / <br><a href="http://katalog.we-online.de/media/images/eisos/UtFB_LT_MID_pf2.jpg" title="Enlarge picture"> / <img src="http://katalog.we-online.de/media/thumbs2/eisos/thb_UtFB_LT_MID_pf2.jpg" width="320"></a><p> / Details see: <a href="http://katalog.we-online.de/en/pbs/WE-FB_Linear?">http://katalog.we-online.de/en/pbs/WE-FB_Linear?</a><p> / Updated 2015-04-03<br> / 2015 (C) Wurth Elektronik / <br>
footprint WE_FB_EP7_DIMENSION2
pins: 1 4, 2 5, 3 1, 4 6, 5 6 2, 7 8 3

## WE-FB_LT35XX/LT3748_EP10
designator T?, comment <b> <b> WE-FB Flyback Transformer LT35xx / LT3748</B> / <br> / <BR> / Characteristics / <br> </B>Standard transformers for various output voltages currents available<BR></B> / Easy design of custom power supply due to standard circuit and change of transformers and two components for feedback loop<BR> / Isolation voltage up to 2.5 kV / <br> / <br> / <br><b> Applications <BR> / </B> Isolated power design<BR> / Sensor interfaces<BR> / Isolated telecom converters<BR> / Power over Ethernet<BR> / <br> / <br> / <br> / <br><a href="http://katalog.we-online.de/media/images/eisos/UtFB_LT_MID_pf2.jpg" title="Enlarge picture"> / <img src="http://katalog.we-online.de/media/thumbs2/eisos/thb_UtFB_LT_MID_pf2.jpg" width="320"></a><p> / Details see: <a href="http://katalog.we-online.de/en/pbs/WE-FB_Linear?">http://katalog.we-online.de/en/pbs/WE-FB_Linear?</a><p> / Updated 2015-04-03<br> / 2015 (C) Wurth Elektronik / <br>
footprint WE-FB_EP10
pins: 1 4, 2 5, 3 1, 4 6, 5 6 2, 7 8 3

## WE-FB_LT35XX/LT3748_EP10_750311342
designator T?, comment <b> <b> WE-FB Flyback Transformer LT35xx / LT3748</B> / <br> / <BR> / Characteristics / <br> </B>Standard transformers for various output voltages currents available<BR></B> / Easy design of custom power supply due to standard circuit and change of transformers and two components for feedback loop<BR> / Isolation voltage up to 2.5 kV / <br> / <br> / <br><b> Applications <BR> / </B> Isolated power design<BR> / Sensor interfaces<BR> / Isolated telecom converters<BR> / Power over Ethernet<BR> / <br> / <br> / <br> / <br><a href="http://katalog.we-online.de/media/images/eisos/UtFB_LT_MID_pf2.jpg" title="Enlarge picture"> / <img src="http://katalog.we-online.de/media/thumbs2/eisos/thb_UtFB_LT_MID_pf2.jpg" width="320"></a><p> / Details see: <a href="http://katalog.we-online.de/en/pbs/WE-FB_Linear?">http://katalog.we-online.de/en/pbs/WE-FB_Linear?</a><p> / Updated 2015-04-03<br> / 2015 (C) Wurth Elektronik / <br>
footprint WE-FB_EP10
pins: 1 6, 2 7, 3 1, 4 8, 5 2, 6 3, 7 5, 8 4

## WE-FB_LT35XX/LT3748_EP10_750310564750310564
designator ?, comment <b> <b> WE-FB Flyback Transformer LT35xx / LT3748</B> / <br> / <BR> / Characteristics / <br> </B>Standard transformers for various output voltages currents available<BR></B> / Easy design of custom power supply due to standard circuit and change of transformers and two components for feedback loop<BR> / Isolation voltage up to 2.5 kV / <br> / <br> / <br><b> Applications <BR> / </B> Isolated power design<BR> / Sensor interfaces<BR> / Isolated telecom converters<BR> / Power over Ethernet<BR> / <br> / <br> / <br> / <br><a href="http://katalog.we-online.de/media/images/eisos/UtFB_LT_MID_pf2.jpg" title="Enlarge picture"> / <img src="http://katalog.we-online.de/media/thumbs2/eisos/thb_UtFB_LT_MID_pf2.jpg" width="320"></a><p> / Details see: <a href="http://katalog.we-online.de/en/pbs/WE-FB_Linear?">http://katalog.we-online.de/en/pbs/WE-FB_Linear?</a><p> / Updated 2015-04-03<br> / 2015 (C) Wurth Elektronik / <br>
footprint WE-FB_EP10
pins: 1 6, 2 7, 3 1, 4 8, 5 4, 6 3, 7 5, 8 2

## WE-FB_LT35XX/LT3748_EP13
designator T?, comment <b> <b> WE-FB Flyback Transformer LT35xx / LT3748</B> / <br> / <BR> / Characteristics / <br> </B>Standard transformers for various output voltages currents available<BR></B> / Easy design of custom power supply due to standard circuit and change of transformers and two components for feedback loop<BR> / Isolation voltage up to 2.5 kV / <br> / <br> / <br><b> Applications <BR> / </B> Isolated power design<BR> / Sensor interfaces<BR> / Isolated telecom converters<BR> / Power over Ethernet<BR> / <br> / <br> / <br> / <br><a href="http://katalog.we-online.de/media/images/eisos/UtFB_LT_MID_pf2.jpg" title="Enlarge picture"> / <img src="http://katalog.we-online.de/media/thumbs2/eisos/thb_UtFB_LT_MID_pf2.jpg" width="320"></a><p> / Details see: <a href="http://katalog.we-online.de/en/pbs/WE-FB_Linear?">http://katalog.we-online.de/en/pbs/WE-FB_Linear?</a><p> / Updated 2015-04-03<br> / 2015 (C) Wurth Elektronik / <br>
footprint WE-FB_EP13_DIMENSION1
pins: 1 4, 2 5, 3 1, 5 6, 6 7 2, 9 10 3

## WE-FB_LT35XX/LT3748_EP13_750311439
designator T?, comment <b> <b> WE-FB Flyback Transformer LT35xx / LT3748</B> / <br> / <BR> / Characteristics / <br> </B>Standard transformers for various output voltages currents available<BR></B> / Easy design of custom power supply due to standard circuit and change of transformers and two components for feedback loop<BR> / Isolation voltage up to 2.5 kV / <br> / <br> / <br><b> Applications <BR> / </B> Isolated power design<BR> / Sensor interfaces<BR> / Isolated telecom converters<BR> / Power over Ethernet<BR> / <br> / <br> / <br> / <br><a href="http://katalog.we-online.de/media/images/eisos/UtFB_LT_MID_pf2.jpg" title="Enlarge picture"> / <img src="http://katalog.we-online.de/media/thumbs2/eisos/thb_UtFB_LT_MID_pf2.jpg" width="320"></a><p> / Details see: <a href="http://katalog.we-online.de/en/pbs/WE-FB_Linear?">http://katalog.we-online.de/en/pbs/WE-FB_Linear?</a><p> / Updated 2015-04-03<br> / 2015 (C) Wurth Elektronik / <br>
footprint WE-FB_EP13_DIMENSION1
pins: 1 4, 2 5, 3 6, 5 1, 6 2, 10 3

## WE-FB_LT35XX/LT3748_EP13_750311486
designator ?, comment <b> <b> WE-FB Flyback Transformer LT35xx / LT3748</B> / <br> / <BR> / Characteristics / <br> </B>Standard transformers for various output voltages currents available<BR></B> / Easy design of custom power supply due to standard circuit and change of transformers and two components for feedback loop<BR> / Isolation voltage up to 2.5 kV / <br> / <br> / <br><b> Applications <BR> / </B> Isolated power design<BR> / Sensor interfaces<BR> / Isolated telecom converters<BR> / Power over Ethernet<BR> / <br> / <br> / <br> / <br><a href="http://katalog.we-online.de/media/images/eisos/UtFB_LT_MID_pf2.jpg" title="Enlarge picture"> / <img src="http://katalog.we-online.de/media/thumbs2/eisos/thb_UtFB_LT_MID_pf2.jpg" width="320"></a><p> / Details see: <a href="http://katalog.we-online.de/en/pbs/WE-FB_Linear?">http://katalog.we-online.de/en/pbs/WE-FB_Linear?</a><p> / Updated 2015-04-03<br> / 2015 (C) Wurth Elektronik / <br>
footprint WE-FB_EP13_DIMENSION1
pins: 1 6, 2 7, 3 1, 4 8, 7 5, 8 3, 9 4, 10 2

## WE-FB_LT35XX/LT3748_EP13_750311681
designator ?, comment <b> <b> WE-FB Flyback Transformer LT35xx / LT3748</B> / <br> / <BR> / Characteristics / <br> </B>Standard transformers for various output voltages currents available<BR></B> / Easy design of custom power supply due to standard circuit and change of transformers and two components for feedback loop<BR> / Isolation voltage up to 2.5 kV / <br> / <br> / <br><b> Applications <BR> / </B> Isolated power design<BR> / Sensor interfaces<BR> / Isolated telecom converters<BR> / Power over Ethernet<BR> / <br> / <br> / <br> / <br><a href="http://katalog.we-online.de/media/images/eisos/UtFB_LT_MID_pf2.jpg" title="Enlarge picture"> / <img src="http://katalog.we-online.de/media/thumbs2/eisos/thb_UtFB_LT_MID_pf2.jpg" width="320"></a><p> / Details see: <a href="http://katalog.we-online.de/en/pbs/WE-FB_Linear?">http://katalog.we-online.de/en/pbs/WE-FB_Linear?</a><p> / Updated 2015-04-03<br> / 2015 (C) Wurth Elektronik / <br>
footprint WE-FB_EP13_DIMENSION1
pins: 3 1, 4 6, 7 5, 8 3, 9 4, 10 2

## WE-FB_LT35XX/LT3748_EP13_750311688
designator T?, comment <b> <b> WE-FB Flyback Transformer LT35xx / LT3748</B> / <br> / <BR> / Characteristics / <br> </B>Standard transformers for various output voltages currents available<BR></B> / Easy design of custom power supply due to standard circuit and change of transformers and two components for feedback loop<BR> / Isolation voltage up to 2.5 kV / <br> / <br> / <br><b> Applications <BR> / </B> Isolated power design<BR> / Sensor interfaces<BR> / Isolated telecom converters<BR> / Power over Ethernet<BR> / <br> / <br> / <br> / <br><a href="http://katalog.we-online.de/media/images/eisos/UtFB_LT_MID_pf2.jpg" title="Enlarge picture"> / <img src="http://katalog.we-online.de/media/thumbs2/eisos/thb_UtFB_LT_MID_pf2.jpg" width="320"></a><p> / Details see: <a href="http://katalog.we-online.de/en/pbs/WE-FB_Linear?">http://katalog.we-online.de/en/pbs/WE-FB_Linear?</a><p> / Updated 2015-04-03<br> / 2015 (C) Wurth Elektronik / <br>
footprint WE-FB_EP13_DIMENSION1
pins: 1 4, 2 5, 3 6, 5 1, 6 7 2, 9 10 3

## WE-FB_LT35XX/LT3748_EP13_750311689
designator T?, comment <b> <b> WE-FB Flyback Transformer LT35xx / LT3748</B> / <br> / <BR> / Characteristics / <br> </B>Standard transformers for various output voltages currents available<BR></B> / Easy design of custom power supply due to standard circuit and change of transformers and two components for feedback loop<BR> / Isolation voltage up to 2.5 kV / <br> / <br> / <br><b> Applications <BR> / </B> Isolated power design<BR> / Sensor interfaces<BR> / Isolated telecom converters<BR> / Power over Ethernet<BR> / <br> / <br> / <br> / <br><a href="http://katalog.we-online.de/media/images/eisos/UtFB_LT_MID_pf2.jpg" title="Enlarge picture"> / <img src="http://katalog.we-online.de/media/thumbs2/eisos/thb_UtFB_LT_MID_pf2.jpg" width="320"></a><p> / Details see: <a href="http://katalog.we-online.de/en/pbs/WE-FB_Linear?">http://katalog.we-online.de/en/pbs/WE-FB_Linear?</a><p> / Updated 2015-04-03<br> / 2015 (C) Wurth Elektronik / <br>
footprint WE-FB_EP13_DIMENSION1
pins: 1 4, 2 5, 3 6, 5 1, 6 7 2, 9 10 3